# Altium integrated library Zeners$.IntLib: 21 symbols
Pins are listed as number, name and electrical type; pins without a type are passive.

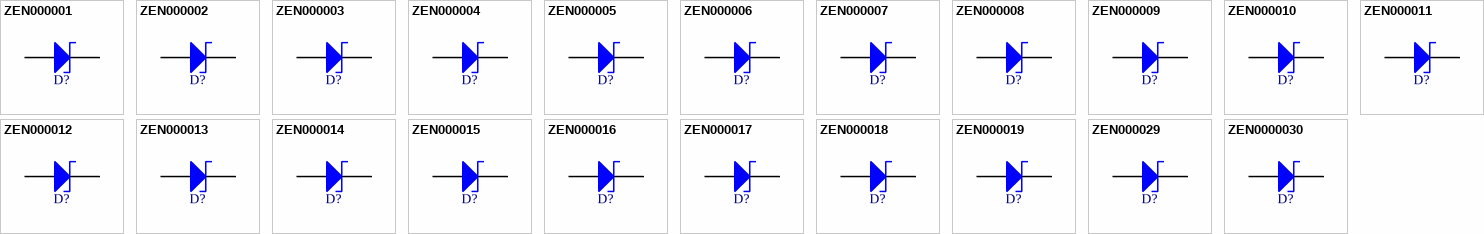
[diagram p0: symbols ZEN000001 to ZEN0000030]

## ZEN000001
designator D?, comment BZX79-C2V7  (value not drawn)
2.7V Zener Diodes TH; Manufactuer: NXP; UoA Stock#: ZEN000001; Assembly Method: Through hole; Item Type: Item; Path: ece/ts/Lists/Stock Inventory; Value: BZX79-C2V7; Voltage/Current: 2.7V; Manufacturer-PN: BZX79-C2V7; Supplier1: Element14; Supplier1-PN: 1097224; Category: Zener; Status: Active
footprint ECE-DIOAD2TH1.00
pins: 1 A, 2 K

## ZEN000002
designator D?, comment BZX79-C3V3  (value not drawn)
3.3V Zener Diodes TH; Manufactuer: NXP; UoA Stock#: ZEN000002; Assembly Method: Through hole; Item Type: Item; Path: ece/ts/Lists/Stock Inventory; Value: BZX79-C3V3; Voltage/Current: 3.3V; Manufacturer-PN: BZX79-C3V3; Supplier1: Element14; Supplier1-PN: 1097229; Category: Zener; Status: Active
footprint ECE-DIOAD2TH1.00
pins: 1 A, 2 K

## ZEN000003
designator D?, comment BZX79-C3V9  (value not drawn)
3.9V Zener Diodes TH; Manufactuer: NXP; UoA Stock#: ZEN000003; Assembly Method: Through hole; Item Type: Item; Path: ece/ts/Lists/Stock Inventory; Value: BZX79-C3V9; Voltage/Current: 3.9V; Manufacturer-PN: BZX79-C3V9; Supplier1: Element14; Supplier1-PN: 1097231; Category: Zener; Status: Active
footprint ECE-DIOAD2TH1.00
pins: 1 A, 2 K

## ZEN000004
designator D?, comment BZX79-C4V7  (value not drawn)
4.7V Zener Diodes TH; Manufactuer: NXP; UoA Stock#: ZEN000004; Assembly Method: Through hole; Item Type: Item; Path: ece/ts/Lists/Stock Inventory; Value: BZX79-C4V7; Voltage/Current: 4.7V; Manufacturer-PN: BZX79-C4V7; Supplier1: Element14; Supplier1-PN: 1097235; Category: Zener; Status: Active
footprint ECE-DIOAD2TH1.00
pins: 1 A, 2 K

## ZEN000005
designator D?, comment BZX79-C5V1  (value not drawn)
5.1V Zener Diodes TH; Manufactuer: NXP; UoA Stock#: ZEN000005; Assembly Method: Through hole; Item Type: Item; Path: ece/ts/Lists/Stock Inventory; Value: BZX79-C5V1; Voltage/Current: 5.1V; Manufacturer-PN: BZX79-C5V1; Supplier1: Element14; Supplier1-PN: 109-7236; Category: Zener; Status: Active
footprint ECE-DIOAD2TH1.00
pins: 1 A, 2 K

## ZEN000006
designator D?, comment BZX79-C5V6  (value not drawn)
5.6V Zener Diodes TH; Manufactuer: NXP; UoA Stock#: ZEN000006; Assembly Method: Through hole; Item Type: Item; Path: ece/ts/Lists/Stock Inventory; Value: BZX79-C5V6; Voltage/Current: 5.6V; Manufacturer-PN: BZX79-C5V6; Supplier1: Element14; Supplier1-PN: 109-7237; Category: Zener; Status: Active
footprint ECE-DIOAD2TH1.00
pins: 1 A, 2 K

## ZEN000007
designator D?, comment BZX79-C6V2  (value not drawn)
6.2V Zener Diodes TH; Manufactuer: NXP; UoA Stock#: ZEN000007; Assembly Method: Through hole; Item Type: Item; Path: ece/ts/Lists/Stock Inventory; Value: BZX79-C6V2; Voltage/Current: 6.2V; Manufacturer-PN: BZX79-C6V2; Supplier1: Element14; Supplier1-PN: 109-7238; Category: Zener; Status: Active
footprint ECE-DIOAD2TH1.00
pins: 1 A, 2 K

## ZEN000008
designator D?, comment BZX79-C6V8  (value not drawn)
6.8V Zener Diodes TH; Manufactuer: NXP; UoA Stock#: ZEN000008; Assembly Method: Through hole; Item Type: Item; Path: ece/ts/Lists/Stock Inventory; Value: BZX79-C6V8; Voltage/Current: 6.8V; Manufacturer-PN: BZX79-C6V8; Supplier1: Element14; Supplier1-PN: 109-7239; Category: Zener; Status: Active
footprint ECE-DIOAD2TH1.00
pins: 1 A, 2 K

## ZEN000009
designator D?, comment BZX79-C7V5  (value not drawn)
7.5V Zener Diodes TH; Manufactuer: NXP; UoA Stock#: ZEN000009; Assembly Method: Through hole; Item Type: Item; Path: ece/ts/Lists/Stock Inventory; Value: BZX79-C7V5; Voltage/Current: 7.5V; Manufacturer-PN: BZX79-C7V5; Supplier1: Element14; Supplier1-PN: 1097241; Category: Zener; Status: Active
footprint ECE-DIOAD2TH1.00
pins: 1 A, 2 K

## ZEN000010
designator D?, comment BZX79-C8V2  (value not drawn)
8.2V Zener Diodes TH; Manufactuer: NXP; UoA Stock#: ZEN000010; Assembly Method: Through hole; Item Type: Item; Path: ece/ts/Lists/Stock Inventory; Value: BZX79-C8V2; Voltage/Current: 8.2V; Manufacturer-PN: BZX79-C8V2; Supplier1: Element14; Supplier1-PN: 1097242; Category: Zener; Status: Active
footprint ECE-DIOAD2TH1.00
pins: 1 A, 2 K

## ZEN000011
designator D?, comment BZX79-C9V1  (value not drawn)
9.1V Zener Diodes TH; Manufactuer: NXP; UoA Stock#: ZEN000011; Assembly Method: Through hole; Item Type: Item; Path: ece/ts/Lists/Stock Inventory; Value: BZX79-C9V1; Voltage/Current: 9.1V; Manufacturer-PN: BZX79-C9V1; Supplier1: Element14; Supplier1-PN: 1097243; Category: Zener; Status: Active
footprint ECE-DIOAD2TH1.00
pins: 1 A, 2 K

## ZEN000012
designator D?, comment BZX79-C10  (value not drawn)
10V Zener Diodes TH; Manufactuer: NXP; UoA Stock#: ZEN000012; Assembly Method: Through hole; Item Type: Item; Path: ece/ts/Lists/Stock Inventory; Value: BZX79-C10; Voltage/Current: 10V; Manufacturer-PN: BZX79-C10; Supplier1: Element14; Supplier1-PN: 1097213; Category: Zener; Status: Active
footprint ECE-DIOAD2TH1.00
pins: 1 A, 2 K

## ZEN000013
designator D?, comment BZX79-C12  (value not drawn)
12V Zener Diodes TH; Manufactuer: NXP; UoA Stock#: ZEN000013; Assembly Method: Through hole; Item Type: Item; Path: ece/ts/Lists/Stock Inventory; Value: BZX79-C12; Voltage/Current: 12V; Manufacturer-PN: BZX79-C12; Supplier1: Element14; Supplier1-PN: 1097215; Category: Zener; Status: Active
footprint ECE-DIOAD2TH1.00
pins: 1 A, 2 K

## ZEN000014
designator D?, comment BZX79-C15  (value not drawn)
15V Zener Diodes TH; Manufactuer: NXP; UoA Stock#: ZEN000014; Assembly Method: Through hole; Item Type: Item; Path: ece/ts/Lists/Stock Inventory; Value: BZX79-C15; Voltage/Current: 15V; Manufacturer-PN: BZX79-C15; Supplier1: Element14; Supplier1-PN: 1097217; Category: Zener; Status: Active
footprint ECE-DIOAD2TH1.00
pins: 1 A, 2 K

## ZEN000015
designator D?, comment BZT52H-B2V7,115  (value not drawn)
2.7V Zener Diodes SM; Manufactuer: NXP Semiconductors; UoA Stock#: ZEN000015; Assembly Method: Surface Mount; Item Type: Item; Path: ece/ts/Lists/Stock Inventory; Value: BZT52H-B2V7,115; Size/Package: SOD-123; Voltage/Current: 2.7V; Manufacturer-PN: BZT52H-B2V7,115; Supplier1: Digikey; Supplier1-PN: 568-11138-6-ND; Category: Zener; Status: Active
footprint ECE-DIO-SOD123SM
pins: 1 A, 2 K

## ZEN000016
designator D?, comment BZT52H-B3V3,115  (value not drawn)
3.3V Zener Diodes SM; Manufactuer: NXP Semiconductors; UoA Stock#: ZEN000016; Assembly Method: Surface Mount; Item Type: Item; Path: ece/ts/Lists/Stock Inventory; Value: BZT52H-B3V3,115; Size/Package: SOD-123; Voltage/Current: 3.3V; Manufacturer-PN: BZT52H-B3V3,115; Supplier1: Digikey; Supplier1-PN: 568-11141-6-ND; Category: Zener; Status: Active
footprint ECE-DIO-SOD123SM
pins: 1 A, 2 K

## ZEN000017
designator D?, comment BZT52H-B3V9,115  (value not drawn)
3.9V Zener Diodes SM; Manufactuer: NXP Semiconductors; UoA Stock#: ZEN000017; Assembly Method: Surface Mount; Item Type: Item; Path: ece/ts/Lists/Stock Inventory; Value: BZT52H-B3V9,115; Size/Package: SOD-123; Voltage/Current: 3.9V; Manufacturer-PN: BZT52H-B3V9,115; Supplier1: Digikey; Supplier1-PN: 568-11143-6-ND; Category: Zener; Status: Active
footprint ECE-DIO-SOD123SM
pins: 1 A, 2 K

## ZEN000018
designator D?, comment BZT52H-B4V7,115  (value not drawn)
4.7V Zener Diodes SM; Manufactuer: NXP Semiconductors; UoA Stock#: ZEN000018; Assembly Method: Surface Mount; Item Type: Item; Path: ece/ts/Lists/Stock Inventory; Value: BZT52H-B4V7,115; Size/Package: SOD-123; Voltage/Current: 4.7V; Manufacturer-PN: BZT52H-B4V7,115; Supplier1: Digikey; Supplier1-PN: 568-11146-1-ND; Category: Zener; Status: Active
footprint ECE-DIO-SOD123SM
pins: 1 A, 2 K

## ZEN000019
designator D?, comment BZT52H-B5V1,115  (value not drawn)
5.1V Zener Diodes SM; Manufactuer: NXP Semiconductors; UoA Stock#: ZEN000019; Assembly Method: Surface Mount; Item Type: Item; Path: ece/ts/Lists/Stock Inventory; Value: BZT52H-B5V1,115; Size/Package: SOD-123; Voltage/Current: 5.1V; Manufacturer-PN: BZT52H-B5V1,115; Supplier1: Digikey; Supplier1-PN: 568-11148-6-ND; Category: Zener; Status: Active
footprint ECE-DIO-SOD123SM
pins: 1 A, 2 K

## ZEN000029
designator D?, comment MMSZ4703  (value not drawn)
16 V Zener 500mW SM; Manufactuer: On Semi; Manufacturer-PN: MMSZ4703T1G; UoA Stock#: ZEN000029; Assembly Method: Surface Mount; Voltage/Current: 16V 500mW; Item Type: Item; Path: ece/ts/Lists/Stock Inventory; Value: MMSZ4703; Size/Package: SOD123; Supplier1: Digikey; Supplier1-PN: MMSZ4703T1GOSTR-ND; Category: Zener; Status: Active
footprint ECE-DIO-SOD123SM
pins: 1 A, 2 K

## ZEN0000030
designator D?, comment PDZ115  (value not drawn)
18V Zener 400mW SM; Manufactuer: NXP; Manufacturer-PN: PDZ18B,115; UoA Stock#: ZEN0000030; Assembly Method: Surface Mount; Voltage/Current: 18V 400mW; Item Type: Item; Path: ece/ts/Lists/Stock Inventory; Value: PDZ115; Size/Package: SOD323; Supplier1: Digikey; Supplier1-PN: 568-6446-1-ND; Category: Zener; Status: Active
footprint ECE-SOD323
pins: 1 A, 2 K